# Altium schematic symbol library Volt Reg.Schlib: 1 symbol
Pins are listed as number, name and electrical type; pins without a type are passive.

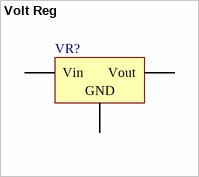
[diagram p0: symbol Volt Reg]

## Volt Reg
designator VR?
Voltage Regulator
pins: 1 Vin, 2 GND, 3 Vout